# EAGLE library part ADCMP608 (library analog-devices)
TTL/CMOS Comparator Single-Supply, Rail-to-Rail, Fast, Low Power 2.5 V to 5.5 V
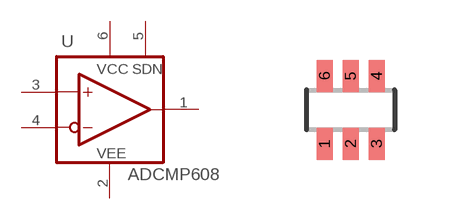
[diagram p63: symbol with the pads of SC70-6L; footprint SC70-6L]

Designator prefix U

## ADCMP608 (P1I: o)  [SC70-6L]
1  Q  oc
2  VEE  pwr
3  VP  in
4  VN  in
5  SDN  in
6  VCC  pwr

## Footprint SC70-6L (pad centres in mm)
SC-70 Package
smd 0.4 x 0.8: 1 -0.65,-0.85; 2 0,-0.85; 3 0.65,-0.85; 4 0.65,0.85; 5 0,0.85; 6 -0.65,0.85